# Altium footprint library conn_sw.PCBLIB: 173 footprints (part 11 of 11)
Each footprint in its own frame and in the unit in brackets; x right, y up, seen from the top. Pads: shape width x height; smd on the part's side, far side on the other; paste and mask are expansions set on the pad; w line width, h text height; cw(c..) or ccw(c..) is an arc to the next point about the centre after c.
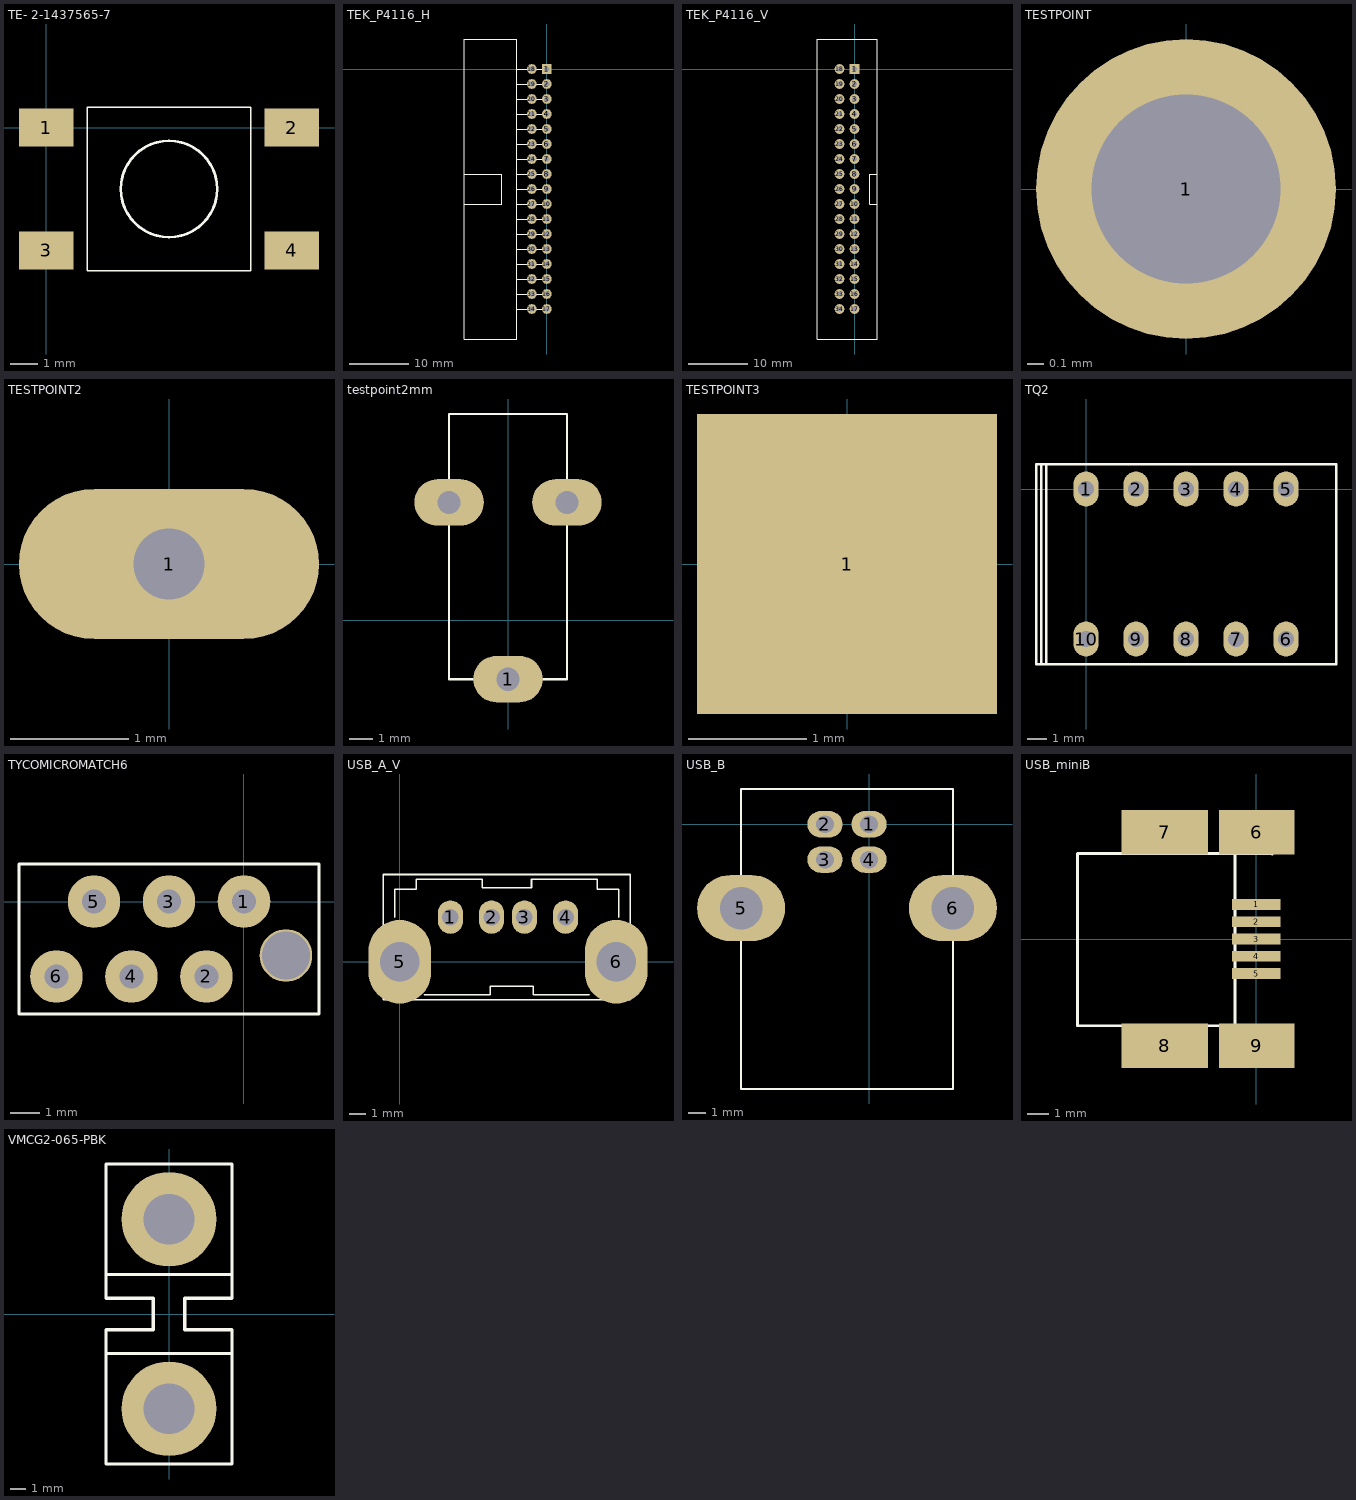
[diagram p10: the footprints below, top view; thin cyan lines are the x and y axes]

## TE- 2-1437565-7 [mm]
pads (4):
  rect 2x1.4 smd: 1(0,0) 2(9,0) 3(0,-4.5) 4(9,-4.5)
Top Overlay:
  circle w0.1: c4.5,-2.25 r1.768
  lines w0.05: 1.5,-5.25 1.5,0.75 7.5,0.75 7.5,-5.25 1.5,-5.25

## TEK_P4116_H [mil]
pads (34):
  rect 65x65 hole 36: 1(0,0)
  round 65 hole 36: 2(0,-100) 3(0,-200) 4(0,-300) 5(0,-400) 6(0,-500) 7(0,-600) 8(0,-700) 9(0,-800) 10(0,-900) 11(0,-1000) 12(0,-1100) 13(0,-1200) 14(0,-1300) 15(0,-1400) 16(0,-1500) 17(0,-1600) 18(-100,0) 19(-100,-100) 20(-100,-200) 21(-100,-300) 22(-100,-400) 23(-100,-500) 24(-100,-600) 25(-100,-700) 26(-100,-800) 27(-100,-900) 28(-100,-1000) 29(-100,-1100) 30(-100,-1200) 31(-100,-1300) 32(-100,-1400) 33(-100,-1500) 34(-100,-1600)
Top Overlay:
  lines w3.94: -550,-900 -300,-900 -300,-700 -550,-700 ; -200,-1600 0,-1600 ; -200,-1500 0,-1500 ; -200,-1400 0,-1400 ; -200,-1300 0,-1300 ; -200,-1200 0,-1200 ; -200,-1100 0,-1100 ; -200,-1000 0,-1000 ; -200,-900 0,-900 ; -200,-800 0,-800 ; -200,-700 0,-700 ; -200,-600 0,-600 ; -200,-500 0,-500 ; -200,-400 0,-400 ; -200,-300 0,-300 ; -200,-200 0,-200 ; -200,-100 0,-100 ; -200,0 0,0 ; -550,-1800 -200,-1800 -200,200 -550,200 -550,-1800

## TEK_P4116_V [mil]
pads (34):
  rect 65x65 hole 36: 1(0,0)
  round 65 hole 36: 2(0,-100) 3(0,-200) 4(0,-300) 5(0,-400) 6(0,-500) 7(0,-600) 8(0,-700) 9(0,-800) 10(0,-900) 11(0,-1000) 12(0,-1100) 13(0,-1200) 14(0,-1300) 15(0,-1400) 16(0,-1500) 17(0,-1600) 18(-100,0) 19(-100,-100) 20(-100,-200) 21(-100,-300) 22(-100,-400) 23(-100,-500) 24(-100,-600) 25(-100,-700) 26(-100,-800) 27(-100,-900) 28(-100,-1000) 29(-100,-1100) 30(-100,-1200) 31(-100,-1300) 32(-100,-1400) 33(-100,-1500) 34(-100,-1600)
Top Overlay:
  lines w3.94: 150,-900 100,-900 100,-700 150,-700 ; -250,-1800 150,-1800 150,200 -250,200 -250,-1800

## TESTPOINT [mil]
pads (1):
  round 70 hole 44: 1(0,0)

## TESTPOINT2 [mm]
pads (1):
  oval 2.54x1.27 hole 0.6: 1(0,0)

## testpoint2mm [mm]
pads (3):
  oval 3x2 hole 1: 1(0,-2.54) ""(-2.54,5.08) ""(2.54,5.08)
Top Overlay:
  lines w0.1: -2.54,-2.54 -2.54,8.89 2.54,8.89 2.54,-2.54 -2.54,-2.54

## TESTPOINT3 [mil]
pads (1):
  rect 100x100 smd: 1(0,0)

## TQ2 [mil]
pads (10):
  oval 50x70 hole 32: 1(0,0) 2(100,0) 3(200,0) 4(300,0) 5(400,0) 6(400,-300) 7(300,-300) 8(200,-300) 9(100,-300) 10(0,-300)
Top Overlay:
  lines w5: -90,-350 -90,50 ; -80,-350 -80,50 ; -100,-350 500,-350 500,50 -100,50 -100,-350

## TYCOMICROMATCH6 [mil]
pads (7):
  round 70 hole 32: 1(0,0) 2(-50,-100) 3(-100,0) 4(-150,-100) 5(-200,0) 6(-250,-100)
  round 70 hole 64: ""(56,-72)
Top Overlay:
  lines w3.94: -300,-150 100,-150 100,50 -250,50 -300,50 -300,-150

## USB_A_V [mm]
pads (6):
  oval 1.524x2.032 hole 1: 1(3.07,2.71) 2(5.57,2.71) 3(7.57,2.71) 4(10.07,2.71)
  oval 3.81x5.08 hole 2.4: 5(0,0) 6(13.14,0)
Top Overlay:
  lines w0.1: -0.3,2.7 -0.3,4.4 1,4.4 1,5 5,5 5,4.5 8,4.5 8,5 12,5 12,4.4 13.3,4.4 13.3,2.7 ; 1.5,-2 5.5,-2 5.5,-1.5 7.9,-1.5 8.1,-1.5 8.1,-2 11.5,-2 ; -1,-2.3 -1,5.3 14,5.3 14,-2.3 2.8,-2.3 -1,-2.3

## USB_B [mil]
pads (6):
  oval 80x60 hole 40: 1(0,0) 2(-100,0) 3(-100,-80) 4(0,-80)
  oval 200x150 hole 96: 5(-290,-190) 6(190,-190)
Top Overlay:
  lines w3.94: -290,-600 -290,30 -290,80 190,80 190,-600 -200,-600 -290,-600

## USB_miniB [mm]
pads (9):
  rect 2.25x0.5 smd: 1(0,1.6) 2(0,0.8) 3(0,0) 4(0,-0.8) 5(0,-1.6)
  rect 3.5x2.05 smd: 6(0.025,4.925) 9(0.025,-4.925)
  rect 4x2.05 smd: 7(-4.225,4.925) 8(-4.225,-4.925)
Top Overlay:
  lines w0.127: -5,3.975 -5,5.25 -3.4,5.25 -3.4,3.95 ; -4.95,-4 -4.95,-5.3 -3.35,-5.3 -3.35,-4.025 ; -1,-4 -0.975,-3.975 -0.975,3.95 ; -0.85,-4 -0.85,-5.3 0.75,-5.3 0.75,-4.025 0.725,-4 -0.325,-4 ; -0.85,4 -0.85,5.275 0.75,5.275 0.75,3.975 ; 0.025,-4 -8.25,-4 -8.25,3.95 -2,3.95 0.725,3.95 0.75,3.925

## VMCG2-065-PBK [mm]
pads (2):
  round 6 hole 3.2: ""(0,-6) ""(0,6)
Top Overlay:
  lines w0.2: -4,-2.5 4,-2.5 ; -4,2.5 4,2.5 ; -4,-9.5 -4,-5 -4,-1 -2,-1 -1,-1 -1,1 -4,1 -4,1.5 -4,6 -4,9.5 4,9.5 4,6 4,1 1,1 1,-1 3,-1 4,-1 4,-5 4,-9.5 1.5,-9.5 -1.5,-9.5 -4,-9.5